# Altium footprint library PCB - CONNECTOR - SAMTEC FTS-104-01-X-DV.PCBLIB: 1 footprints
Each footprint in its own frame and in the unit in brackets; x right, y up, seen from the top. Pads: shape width x height; smd on the part's side, far side on the other; paste and mask are expansions set on the pad; w line width, h text height; cw(c..) or ccw(c..) is an arc to the next point about the centre after c.
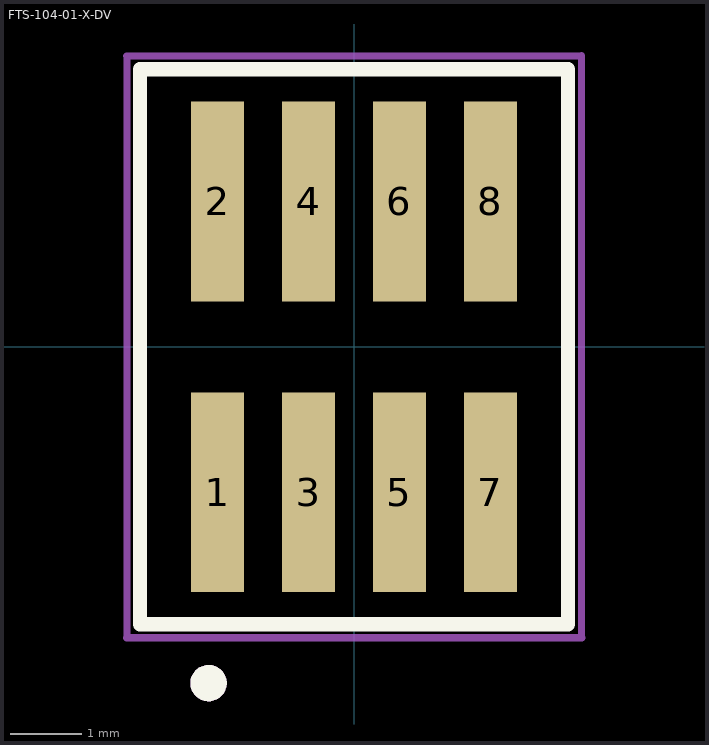
[diagram p0: the footprint, top view; thin cyan lines are the x and y axes]

## FTS-104-01-X-DV [mm]
pads (8):
  rect 0.74x2.79 smd mask+0: 1(-1.905,-2.032) 2(-1.905,2.032) 3(-0.635,-2.032) 4(-0.635,2.032) 5(0.635,-2.032) 6(0.635,2.032) 7(1.905,-2.032) 8(1.905,2.032)
Top Overlay:
  circle w0.254: c-2.032,-4.699 r0.127
  lines w0.2: -2.99,-3.878 -2.99,3.878 2.99,3.878 2.99,-3.878 -2.99,-3.878
Top Paste:
  region: -1.535,-3.427 -2.275,-3.427 -2.275,-0.637 -1.535,-0.637
  region: -1.535,0.637 -2.275,0.637 -2.275,3.427 -1.535,3.427
  region: -0.265,-3.427 -1.005,-3.427 -1.005,-0.637 -0.265,-0.637
  region: -0.265,0.637 -1.005,0.637 -1.005,3.427 -0.265,3.427
  region: 1.005,-3.427 0.265,-3.427 0.265,-0.637 1.005,-0.637
  region: 1.005,0.637 0.265,0.637 0.265,3.427 1.005,3.427
  region: 2.275,-3.427 1.535,-3.427 1.535,-0.637 2.275,-0.637
  region: 2.275,0.637 1.535,0.637 1.535,3.427 2.275,3.427
Top Solder:
  region: -1.484,-3.478 -2.326,-3.478 -2.326,-0.586 -1.484,-0.586
  region: -1.484,0.586 -2.326,0.586 -2.326,3.478 -1.484,3.478
  region: -0.214,-3.478 -1.056,-3.478 -1.056,-0.586 -0.214,-0.586
  region: -0.214,0.586 -1.056,0.586 -1.056,3.478 -0.214,3.478
  region: 1.056,-3.478 0.214,-3.478 0.214,-0.586 1.056,-0.586
  region: 1.056,0.586 0.214,0.586 0.214,3.478 1.056,3.478
  region: 2.326,-3.478 1.484,-3.478 1.484,-0.586 2.326,-0.586
  region: 2.326,0.586 1.484,0.586 1.484,3.478 2.326,3.478
Top Assembly:
  circle w0.254: c-2.032,-4.699 r0.127
  lines w0.1: -2.99,-3.878 -2.99,3.878 2.99,3.878 2.99,-3.878 -2.99,-3.878
Top Courtyard:
  lines w0.1: -3.175,-4.066 3.184,-4.066 ; -3.175,4.064 3.175,4.064 ; -3.174,-4.066 -3.174,4.066 ; 3.18,-4.064 3.18,4.067
Top Designator:
  text ".Designator" at -3.175,5.588 h1
Top Value (Mech13):
  text ".Comment" at -3.175,4.572 h1